# EAGLE library part ILD4035 (library SC74)
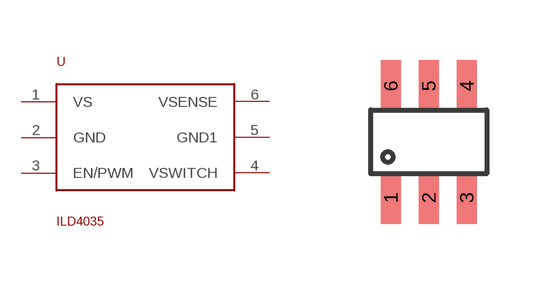
[diagram p0: symbol with the pads of SC74; footprint SC74]

Designator prefix -

## ILD4035  [SC74]
1  VS
2  GND
3  EN/PWM
4  VSWITCH
5  GND1
6  VSENSE

## Footprint SC74 (pad centres in mm)
smd 0.5 x 1.3: 1 -0.95,-1.4; 2 0,-1.4; 3 0.95,-1.4; 4 0.95,1.4; 5 0,1.4; 6 -0.95,1.4